# Altium integrated library LinearTechnology-LTC6811.IntLib: 4 symbols
Pins are listed as number, name and electrical type; pins without a type are passive.

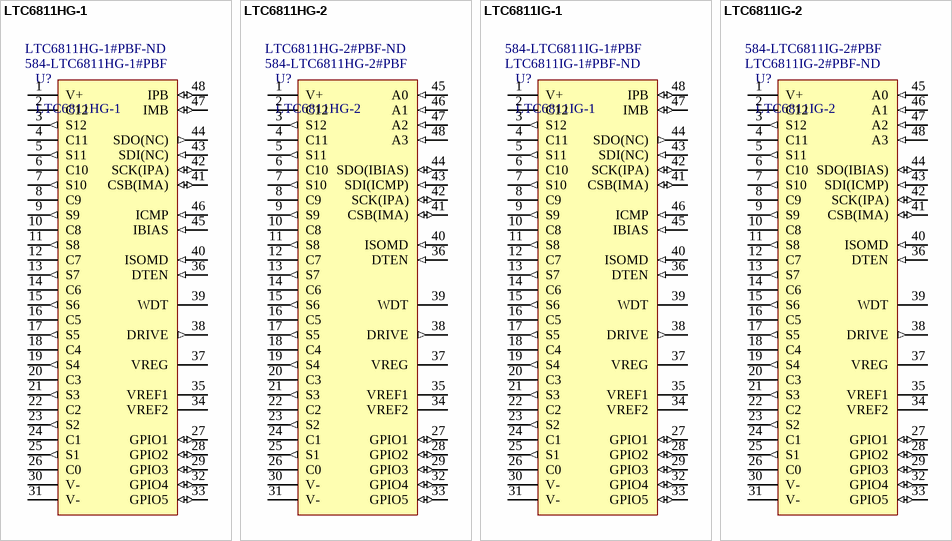
[diagram p0: symbols LTC6811HG-1 to LTC6811IG-2]

## LTC6811HG-1
designator U?  Supplier Part Number 1: 584-LTC6811HG-1#PBF  Supplier Part Number 2: LTC6811HG-1#PBF-ND
Linear Technology / 12-Channel Battery Stack Monitors / DaisyChain Mode / -40℃ ~ 125℃; Supplier 1: Mouser; Supplier 2: Digi-Key
footprint LTC-G_Package(High) (48-Lead Plastic SSOP (5.3mm), Reference LTC DWG # 05-08-1887 Rev A)
footprint LTC-G_Package(Med) (48-Lead Plastic SSOP (5.3mm), Reference LTC DWG # 05-08-1887 Rev A)
pins: 1 V+ (power), 2 C12, 3 S12 (out), 4 C11, 5 S11 (out), 6 C10, 7 S10 (out), 8 C9, 9 S9 (out), 10 C8, 11 S8 (out), 12 C7, 13 S7 (out), 14 C6, 15 S6 (out), 16 C5, 17 S5 (out), 18 C4, 19 S4 (out), 20 C3, 21 S3 (out), 22 C2, 23 S2 (out), 24 C1, 25 S1 (out), 26 C0, 27 GPIO1 (io), 28 GPIO2 (io), 29 GPIO3 (io), 30 V- (power), 31 V- (power), 32 GPIO4 (io), 33 GPIO5 (io), 34 VREF2, 35 VREF1, 36 DTEN (in), 37 VREG, 38 DRIVE (out), 39 WDT, 40 ISOMD (in), 41 CSB(IMA) (io), 42 SCK(IPA) (io), 43 SDI(NC) (in), 44 SDO(NC) (out), 45 IBIAS (in), 46 ICMP (in), 47 IMB (io), 48 IPB (io)

## LTC6811HG-2
designator U?  Supplier Part Number 1: 584-LTC6811HG-2#PBF  Supplier Part Number 2: LTC6811HG-2#PBF-ND
Linear Technology / 12-Channel Battery Stack Monitors / Addressing Mode / -40℃ ~ 125℃; Supplier 1: Mouser; Supplier 2: Digi-Key
footprint LTC-G_Package(High) (48-Lead Plastic SSOP (5.3mm), Reference LTC DWG # 05-08-1887 Rev A)
footprint LTC-G_Package(Med) (48-Lead Plastic SSOP (5.3mm), Reference LTC DWG # 05-08-1887 Rev A)
pins: 1 V+ (power), 2 C12, 3 S12 (out), 4 C11, 5 S11 (out), 6 C10, 7 S10 (out), 8 C9, 9 S9 (out), 10 C8, 11 S8 (out), 12 C7, 13 S7 (out), 14 C6, 15 S6 (out), 16 C5, 17 S5 (out), 18 C4, 19 S4 (out), 20 C3, 21 S3 (out), 22 C2, 23 S2 (out), 24 C1, 25 S1 (out), 26 C0, 27 GPIO1 (io), 28 GPIO2 (io), 29 GPIO3 (io), 30 V- (power), 31 V- (power), 32 GPIO4 (io), 33 GPIO5 (io), 34 VREF2, 35 VREF1, 36 DTEN (in), 37 VREG, 38 DRIVE (out), 39 WDT, 40 ISOMD (in), 41 CSB(IMA) (io), 42 SCK(IPA) (io), 43 SDI(ICMP) (in), 44 SDO(IBIAS) (io), 45 A0 (in), 46 A1 (in), 47 A2 (in), 48 A3 (in)

## LTC6811IG-1
designator U?  Supplier Part Number 1: LTC6811IG-1#PBF-ND  Supplier Part Number 2: 584-LTC6811IG-1#PBF
Linear Technology / 12-Channel Battery Stack Monitors / DaisyChain Mode / -40℃ ~ 85℃; Supplier 1: Digi-Key; Supplier 2: Mouser
footprint LTC-G_Package(High) (48-Lead Plastic SSOP (5.3mm), Reference LTC DWG # 05-08-1887 Rev A)
footprint LTC-G_Package(Med) (48-Lead Plastic SSOP (5.3mm), Reference LTC DWG # 05-08-1887 Rev A)
pins: 1 V+ (power), 2 C12, 3 S12 (out), 4 C11, 5 S11 (out), 6 C10, 7 S10 (out), 8 C9, 9 S9 (out), 10 C8, 11 S8 (out), 12 C7, 13 S7 (out), 14 C6, 15 S6 (out), 16 C5, 17 S5 (out), 18 C4, 19 S4 (out), 20 C3, 21 S3 (out), 22 C2, 23 S2 (out), 24 C1, 25 S1 (out), 26 C0, 27 GPIO1 (io), 28 GPIO2 (io), 29 GPIO3 (io), 30 V- (power), 31 V- (power), 32 GPIO4 (io), 33 GPIO5 (io), 34 VREF2, 35 VREF1, 36 DTEN (in), 37 VREG, 38 DRIVE (out), 39 WDT, 40 ISOMD (in), 41 CSB(IMA) (io), 42 SCK(IPA) (io), 43 SDI(NC) (in), 44 SDO(NC) (out), 45 IBIAS (in), 46 ICMP (in), 47 IMB (io), 48 IPB (io)

## LTC6811IG-2
designator U?  Supplier Part Number 1: LTC6811IG-2#PBF-ND  Supplier Part Number 2: 584-LTC6811IG-2#PBF
Linear Technology / 12-Channel Battery Stack Monitors / Addressing Mode / -40℃ ~ 85℃; Supplier 1: Digi-Key; Supplier 2: Mouser
footprint LTC-G_Package(High) (48-Lead Plastic SSOP (5.3mm), Reference LTC DWG # 05-08-1887 Rev A)
footprint LTC-G_Package(Med) (48-Lead Plastic SSOP (5.3mm), Reference LTC DWG # 05-08-1887 Rev A)
pins: 1 V+ (power), 2 C12, 3 S12 (out), 4 C11, 5 S11 (out), 6 C10, 7 S10 (out), 8 C9, 9 S9 (out), 10 C8, 11 S8 (out), 12 C7, 13 S7 (out), 14 C6, 15 S6 (out), 16 C5, 17 S5 (out), 18 C4, 19 S4 (out), 20 C3, 21 S3 (out), 22 C2, 23 S2 (out), 24 C1, 25 S1 (out), 26 C0, 27 GPIO1 (io), 28 GPIO2 (io), 29 GPIO3 (io), 30 V- (power), 31 V- (power), 32 GPIO4 (io), 33 GPIO5 (io), 34 VREF2, 35 VREF1, 36 DTEN (in), 37 VREG, 38 DRIVE (out), 39 WDT, 40 ISOMD (in), 41 CSB(IMA) (io), 42 SCK(IPA) (io), 43 SDI(ICMP) (in), 44 SDO(IBIAS) (io), 45 A0 (in), 46 A1 (in), 47 A2 (in), 48 A3 (in)